# Altium footprint library EE209_PcbLib.PcbLib: 31 footprints (part 1 of 2)
Each footprint in its own frame and in the unit in brackets; x right, y up, seen from the top. Pads: shape width x height; smd on the part's side, far side on the other; paste and mask are expansions set on the pad; w line width, h text height; cw(c..) or ccw(c..) is an arc to the next point about the centre after c.
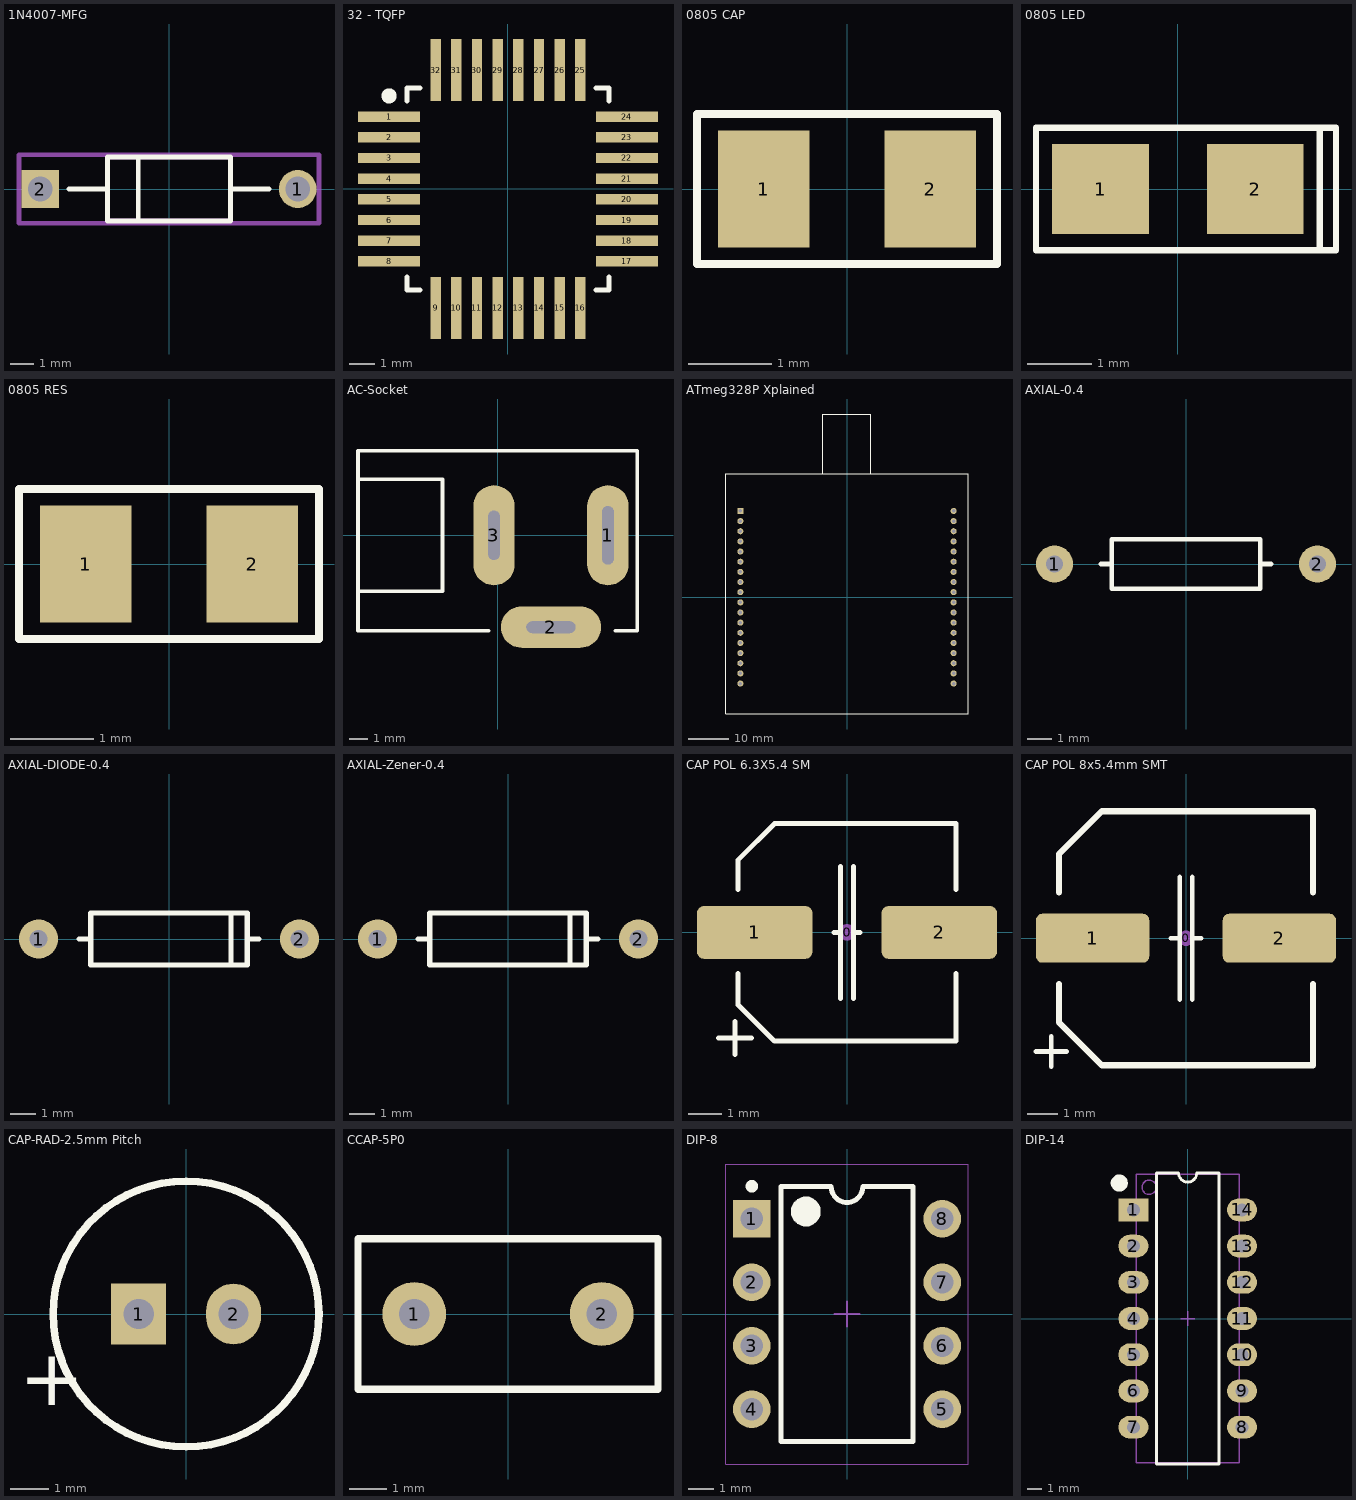
[diagram p0: the footprints below, top view; thin cyan lines are the x and y axes]

## 1N4007-MFG [mm]
pads (2):
  round 1.6 hole 1.05 paste-2539.97 mask+0: 1(5.438,0)
  rect 1.6x1.6 hole 1.05 paste-2539.97 mask+0: 2(-5.438,0)
Top Overlay:
  lines w0.2: -4.238,0 -2.6,0 ; -1.3,-1.28 -1.3,1.28 ; 2.6,0 4.238,0 ; -2.6,-1.35 2.6,-1.35 2.6,1.35 -2.6,1.35 -2.6,-1.35
Mechanical 5:
  lines w0.2: -6.338,-1.45 6.338,-1.45 6.338,1.45 -6.338,1.45 -6.338,-1.45
Mechanical 13:
  lines w0.2: -2.6,-1.35 2.6,-1.35 2.6,1.35 -2.6,1.35 -2.6,-1.35
Mechanical 15:
  lines w0.2: -6.338,-1.45 6.338,-1.45 6.338,1.45 -6.338,1.45 -6.338,-1.45
3D body "Diode_Vishay_1N4007-E3-54_eec.STEP": height 0.25, standoff 0, extent -6.338,-1.45 6.338,1.45

## 32 - TQFP [mm]
pads (32):
  rect 2.4x0.4 smd: 1(-4.6,2.8) 2(-4.6,2) 3(-4.6,1.2) 4(-4.6,0.4) 5(-4.6,-0.4) 6(-4.6,-1.2) 7(-4.6,-2) 8(-4.6,-2.8) 17(4.6,-2.8) 18(4.6,-2) 19(4.6,-1.2) 20(4.6,-0.4) 21(4.6,0.4) 22(4.6,1.2) 23(4.6,2) 24(4.6,2.8)
  rect 0.4x2.4 smd: 9(-2.8,-4.6) 10(-2,-4.6) 11(-1.2,-4.6) 12(-0.4,-4.6) 13(0.4,-4.6) 14(1.2,-4.6) 15(2,-4.6) 16(2.8,-4.6) 25(2.8,4.6) 26(2,4.6) 27(1.2,4.6) 28(0.4,4.6) 29(-0.4,4.6) 30(-1.2,4.6) 31(-2,4.6) 32(-2.8,4.6)
Top Overlay:
  circle w0.3: c-4.6,3.6 r0.141
  lines w0.2: -3.9,-3.4 -3.9,-3.9 -3.4,-3.9 ; -3.9,3.4 -3.9,3.9 -3.4,3.9 ; 3.4,-3.9 3.9,-3.9 3.9,-3.4 ; 3.4,3.9 3.9,3.9 3.9,3.4
3D body "ATmega_AP214.STEP": height 1, standoff -0.1, extent -4.498,-4.498 4.498,4.498
3D body: height 1.3, standoff 0.1, extent -3,2 -2.004,2.998

## 0805 CAP [mm] "http://www.digikey.co.nz/Web%20Export/Supplier%20Content/Vishay_8026/PDF/VishayBeyschlag_SolderPad.pdf?redirected=1 with dimension G modified by +0.25mm"
pads (2):
  rect 1.1x1.4 smd: 1(-1,0) 2(1,0)
Top Overlay:
  lines w0.1: -1.8,-0.9 1.8,-0.9 1.8,0.9 -1.8,0.9 -1.8,-0.9
3D body: height 0.61, standoff 0, extent 0.762,-0.66 1.041,0.66
3D body: height 0.61, standoff 0, extent -1.041,-0.66 -0.762,0.66
3D body: height 0.6, standoff 0, extent -1.016,-0.635 1.016,0.635

## 0805 LED [mm] "RED AS AlGaAs SMD LED, Body; 2mm x 1.25 mm (LxW)"
height 1
pads (2):
  rect 1.5x1.4 smd: 1(-1.2,0) 2(1.2,0)
Top Overlay:
  lines w0.1: 2.2,-0.95 2.45,-0.95 2.45,0.95 2.2,0.95 ; 2.2,-0.95 2.2,0.95 ; 2.2,-0.95 -2.2,-0.95 -2.2,0.95 2.2,0.95
Mechanical 13:
  lines w0.1: -0.7,-0.625 -0.7,0.625
3D body: height 0.6, standoff 0.5, extent -0.2,-0.2 0.2,0.2
3D body: height 1.1, standoff 0.5, extent -0.7,-0.625 0.7,0.625
3D body: height 0.5, standoff 0, extent -1,-0.625 1,0.625

## 0805 RES [mm] "http://www.digikey.co.nz/Web%20Export/Supplier%20Content/Vishay_8026/PDF/VishayBeyschlag_SolderPad.pdf?redirected=1 with dimension G modified by +0.25mm"
pads (2):
  rect 1.1x1.4 smd: 1(-1,0) 2(1,0)
Top Overlay:
  lines w0.1: -1.8,-0.9 1.8,-0.9 1.8,0.9 -1.8,0.9 -1.8,-0.9
3D body: height 0.61, standoff 0, extent 0.762,-0.66 1.041,0.66
3D body: height 0.61, standoff 0, extent -1.041,-0.66 -0.762,0.66
3D body: height 0.6, standoff 0, extent -1.016,-0.635 1.016,0.635

## AC-Socket [mm]
pads (3):
  oval 2.25x5.45 hole 0.635 slot 3.175 at 90 deg: 1(6,0)
  oval 5.45x2.25 hole 0.635 slot 2.667 at 0 deg: 2(2.9,-5)
  oval 2.25x5.45 hole 0.635 slot 2.667 at 90 deg: 3(-0.2,0)
Top Overlay:
  lines w0.2: -7.6,-3.05 -3,-3.05 -3,3.05 -7.6,3.05 ; -0.5,-5.2 -7.6,-5.2 -7.6,4.6 7.6,4.6 7.6,-5.2 6.4,-5.2
Mechanical 1:
  lines w1: -0.2,-1.5 -0.2,1.7 ; 1.3,-5 4.4,-5 ; 6,-1.6 6,1.6
3D body "9V Connector.stp": height 10.5, standoff -4, extent -6.7,-5 6,4.2

## ATmeg328P Xplained [mil]
pads (36):
  rect 60x60 hole 35: 1(-1050,850)
  round 60 hole 35: 2(-1050,750) 3(-1050,650) 4(-1050,550) 5(-1050,450) 6(-1050,350) 7(-1050,250) 8(-1050,150) 9(-1050,50) 10(-1050,-50) 11(-1050,-150) 12(-1050,-250) 13(-1050,-350) 14(-1050,-450) 15(-1050,-550) 16(-1050,-650) 17(-1050,-750) 18(-1050,-850) 19(1050,-850) 20(1050,-750) 21(1050,-650) 22(1050,-550) 23(1050,-450) 24(1050,-350) 25(1050,-250) 26(1050,-150) 27(1050,-50) 28(1050,50) 29(1050,150) 30(1050,250) 31(1050,350) 32(1050,450) 33(1050,550) 34(1050,650) 35(1050,750) 36(1050,850)
Top Overlay:
  lines w10: -240,1215 -240,1805 235,1805 235,1217.26 ; -1195,-1150 1195,-1150 1195,1215 -1195,1215 -1195,-1150
3D body "ATmega328PB_Xplained_Mini_release_rev5.step": height 451.57, standoff -54.57, extent -1200.78,-1149.6 1161.42,1845.48

## AXIAL-0.4 [mm]
pads (2):
  round 1.524 hole 0.7: 1(-5.4,0) 2(5.4,0)
Top Overlay:
  lines w0.2: -3.5,0 -3.048,0 ; 3.048,0 3.5,0 ; -3.048,-1.016 -3.048,1.016 3.048,1.016 3.048,-1.016 -3.048,-1.016
3D body "axial_resistor_L6.8_D2.6_PinD0.6_Pitch10.8_water_green.step": height 2.7, standoff -2.9, extent -5.7,-1.297 5.7,1.298

## AXIAL-DIODE-0.4 [mil]
pads (2):
  round 60 hole 27.56: 1(-200,0) 2(200,0)
Top Overlay:
  lines w7.87: -137.8,0 -120,0 ; 120,0 137.8,0 ; -120,-40 120,-40 120,40 -120,40 -120,-40
  lines w8: 95,-40 95,40
3D body "DIODE-1N4148.STEP": height 72.93, standoff -98.43, extent -209.05,-33.58 209.06,33.56

## AXIAL-Zener-0.4 [mil]
pads (2):
  round 60 hole 27.56: 1(-200,0) 2(200,0)
Top Overlay:
  lines w7.87: -137.8,0 -120,0 ; 120,0 137.8,0 ; -120,-40 120,-40 120,40 -120,40 -120,-40
  lines w8: 95,-40 95,40
3D body "Silicone Diode 3_9x2_6.STEP": height 91.54, standoff -70.08, extent -211.02,-52.16 211.03,52.17

## CAP POL 6.3X5.4 SM [mm] "Capacitor, polarized, aluminum can; 6.3x5.4mm DxH"
height 5.4
pads (3):
  round 0.508 on Mech15: 0(0,0)
  rrect25% 3.5x1.6 smd: 1(-2.8,0) 2(2.8,0)
Top Overlay:
  lines w0.152: -3.9,-3.2 -3.4,-3.2 -2.9,-3.2 ; -3.4,-3.7 -3.4,-2.7 ; -3.3,-1.25 -3.3,-2.2 -2.2,-3.3 3.3,-3.3 3.3,-1.25 ; -3.3,1.3 -3.3,2.2 -2.2,3.3 3.3,3.3 3.3,1.3 ; -0.4,0 -0.2,0 ; -0.2,-2 -0.2,2 ; 0.2,-2 0.2,2 ; 0.2,0 0.4,0
3D body "Cap, elec, 6.3x4.2.STEP": height 4.23, standoff 0, extent -3.3,-3.3 3.3,3.3

## CAP POL 8x5.4mm SMT [mm]
pads (3):
  round 0.508 on Mech15: 0(0,0)
  rrect25% 3.7x1.6 smd: 1(-3.05,0) 2(3.05,0)
Top Overlay:
  lines w0.152: -4.9,-3.7 -4.4,-3.7 -3.9,-3.7 ; -4.4,-4.2 -4.4,-3.2 ; -0.5,0 -0.2,0 ; -0.2,-2 -0.2,2 ; 0.2,-2 0.2,2 ; 0.2,0 0.5,0
  lines w0.2: -4.15,-1.5 -4.15,-2.75 -2.75,-4.15 4.15,-4.15 4.15,-1.5 ; -4.15,1.5 -4.15,2.75 -2.75,4.15 4.15,4.15 4.15,1.5
3D body: height 0.4, standoff 0, extent -4.15,-4.15 4.15,4.15
3D body: height 0.2, standoff 0, extent -4.5,-0.4 4.5,0.4
3D body: height 5.4, standoff 0, extent -4,-3.997 4,3.997

## CAP-RAD-2.5mm Pitch [mm] "Cap 6.3 X 11.2"
pads (2):
  rect 1.45x1.6 hole 0.8: 1(-1.25,0)
  oval 1.45x1.6 hole 0.8: 2(1.25,0)
Top Overlay:
  circle w0.2: c0,0 r3.5
  text "+" at -4.4,-2.4 h1.5
3D body "ElecCap 6_3x11 v3.step": height 11.5, standoff -18.5, extent -3.148,-3.152 3.152,3.146

## CCAP-5P0 [mm]
pads (2):
  round 1.7 hole 0.8: 1(-2.5,0) 2(2.5,0)
Top Overlay:
  lines w0.2: -4,-2 4,-2 4,2 -4,2 -4,-2
3D body "cdisk_p5-5_d5_th3.stp": height 6.5, standoff -3.5, extent -3.25,-1.5 3.25,1.5

## DIP-8 [mm] "DIP, 8-Leads, Body 10.15x6.6mm, Pitch 2.54mm"
height 5.08
pads (8):
  rect 1.5x1.5 hole 0.9: 1(-3.81,3.81)
  round 1.5 hole 0.9: 2(-3.81,1.27) 3(-3.81,-1.27) 4(-3.81,-3.81) 5(3.81,-3.81) 6(3.81,-1.27) 7(3.81,1.27) 8(3.81,3.81)
Top Overlay:
  circle w0.25: c-3.81,5.11 r0.125
  circle w0.6: c-1.65,4.1 r0.3
  lines w0.2: -2.65,-5.1 -2.65,5.1 -0.635,5.1 ccw(c0,5.1) 0.635,5.1 2.65,5.1 2.65,-5.1 -2.65,-5.1
Mechanical 15:
  lines w0.05: -4.85,-6 -4.85,6 4.85,6 4.85,-6 -4.85,-6
  lines w0.1: -0.5,0 0.5,0 ; 0,-0.5 0,0.5
3D body "CircuitWorks-DIP8.STEP": height 4.19, standoff -2.67, extent -3.874,-5.715 4,5.715

## DIP-14 [mm] "DIP; 14 Leads; Row Spacing 7.62 mm; Pitch 2.54 mm"
height 5.08
pads (14):
  rect 2.1x1.6 hole 0.9: 1(-3.81,7.62)
  oval 2.1x1.6 hole 0.9: 2(-3.81,5.08) 3(-3.81,2.54) 4(-3.81,0) 5(-3.81,-2.54) 6(-3.81,-5.08) 7(-3.81,-7.62) 8(3.81,-7.62) 9(3.81,-5.08) 10(3.81,-2.54) 11(3.81,0) 12(3.81,2.54) 13(3.81,5.08) 14(3.81,7.62)
Top Overlay:
  circle w0.6: c-4.8,9.5 r0.3
  lines w0.2: -2.2,-10.2 -2.2,10.2 -0.635,10.2 ccw(c0,10.2) 0.635,10.2 2.2,10.2 2.2,-10.2 -2.2,-10.2
Mechanical 13:
  circle w0.1: c-2.7,9.2 r0.5
  lines w0.1: -3.6,-10.1 3.6,-10.1 3.6,10.1 -3.6,10.1 -3.6,-10.1
Mechanical 15:
  lines w0.1: -0.5,0 0.5,0 ; 0,-0.5 0,0.5
3D body "LM324 with socket.STEP": height 9.47, standoff -2.75, extent -5.07,-10.202 5.09,10.118
3D body: height 5.1, standoff 0, extent -3.096,8.701 -2.1,9.699